# Altium footprint library BMI088 IMU.PcbLib: 1 footprints
Each footprint in its own frame and in the unit in brackets; x right, y up, seen from the top. Pads: shape width x height; smd on the part's side, far side on the other; paste and mask are expansions set on the pad; w line width, h text height; cw(c..) or ccw(c..) is an arc to the next point about the centre after c.
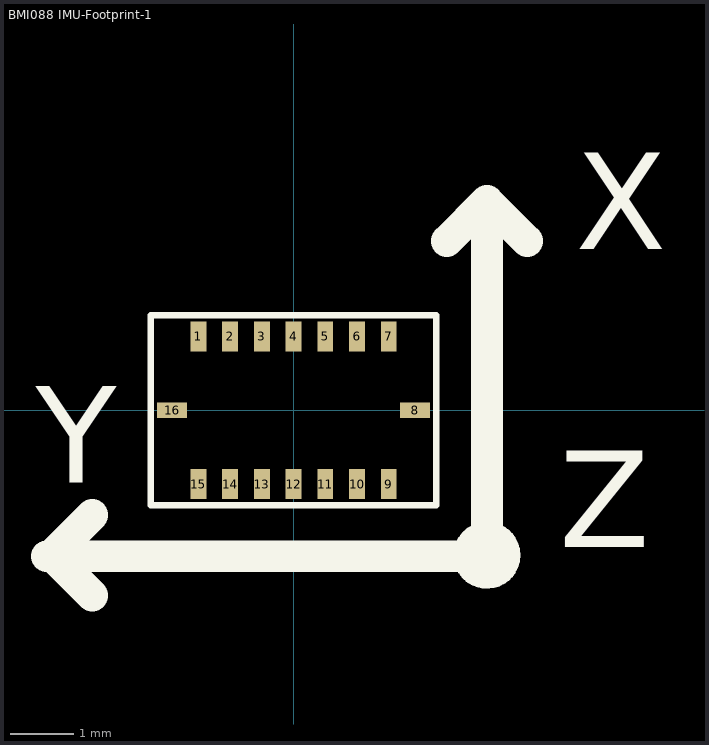
[diagram p0: the footprint, top view; thin cyan lines are the x and y axes]

## BMI088 IMU-Footprint-1 [mm]
pads (16):
  rect 0.25x0.475 smd mask+0.03: 1(-1.5,1.165) 2(-1,1.165) 3(-0.5,1.165) 4(0,1.165) 5(0.5,1.165) 6(1,1.165) 7(1.5,1.165) 9(1.5,-1.165) 10(1,-1.165) 11(0.5,-1.165) 12(0,-1.165) 13(-0.5,-1.165) 14(-1,-1.165) 15(-1.5,-1.165)
  rect 0.475x0.25 smd mask+0.03: 8(1.915,0) 16(-1.915,0)
Top Overlay:
  circle w0.254: c3.048,-2.286 r0.254
  circle w0.254: c3.048,-2.286 r0.402
  lines w0.1: 3.048,-2.319 3.048,-2.286 ; -2.25,-1.5 -2.25,1.5 2.25,1.5 2.25,-1.5 -2.25,-1.5
  lines w0.5: -3.175,-2.921 -3.794,-2.302 -3.889,-2.302 ; -3.175,-1.651 -3.826,-2.302 -3.889,-2.302 ; 2.413,2.667 3.048,3.302 3.683,2.667 ; 3.048,-2.286 3.048,3.175 ; 3.111,-2.302 -3.889,-2.302
  text "." at -2.096,1.135 h1.52
  text "." at -2.392,0.786 h2
  text "Y" at -4.064,-1.143 h1.52
  text "X" at 4.445,2.54 h1.52
  text "Z" at 4.191,-2.159 h1.52
3D body "BMI088.STEP": height 1, standoff 0, extent -2.25,-1.5 2.25,1.5